# Altium schematic symbol library WLPMA0A040M4R7LC.SchLib: 1 symbol
Pins are listed as number, name and electrical type; pins without a type are passive.

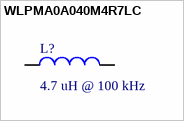
[diagram p0: symbol WLPMA0A040M4R7LC]

## WLPMA0A040M4R7LC
designator L?  Inductance: 4.7 uH @ 100 kHz  (hidden comment: WLPMA0A040M4R7LC)
Fixed Inductors Power choke,Molded, 1040,4.7uH,M,15A; Tolerance: 20%; Rated Current: 8.5 A; DCR (TYP): 20 mOhms; PN: WLPMA0A040M4R7LC; Package: CUSTOM; Footprint: WLPMA0A040M4R7LC; Saturation Current: 15 A; ComponentLink1Description: Datasheet; ComponentLink1URL: https://www.mouser.ca/datasheet/2/210/WLPMA0A040LC_Series-1670480.pdf; Supplier 1: Mouser; Supplier Part Number 1: 791-WLPMA0A040M4R7LC
footprint WLPMA0A040M4R7LC (A footprint for WLPMA0A040M4R7LC)
pins: 1, 2